# Altium schematic symbol library NEST.SchLib: 23 symbols
Pins are listed as number, name and electrical type; pins without a type are passive.

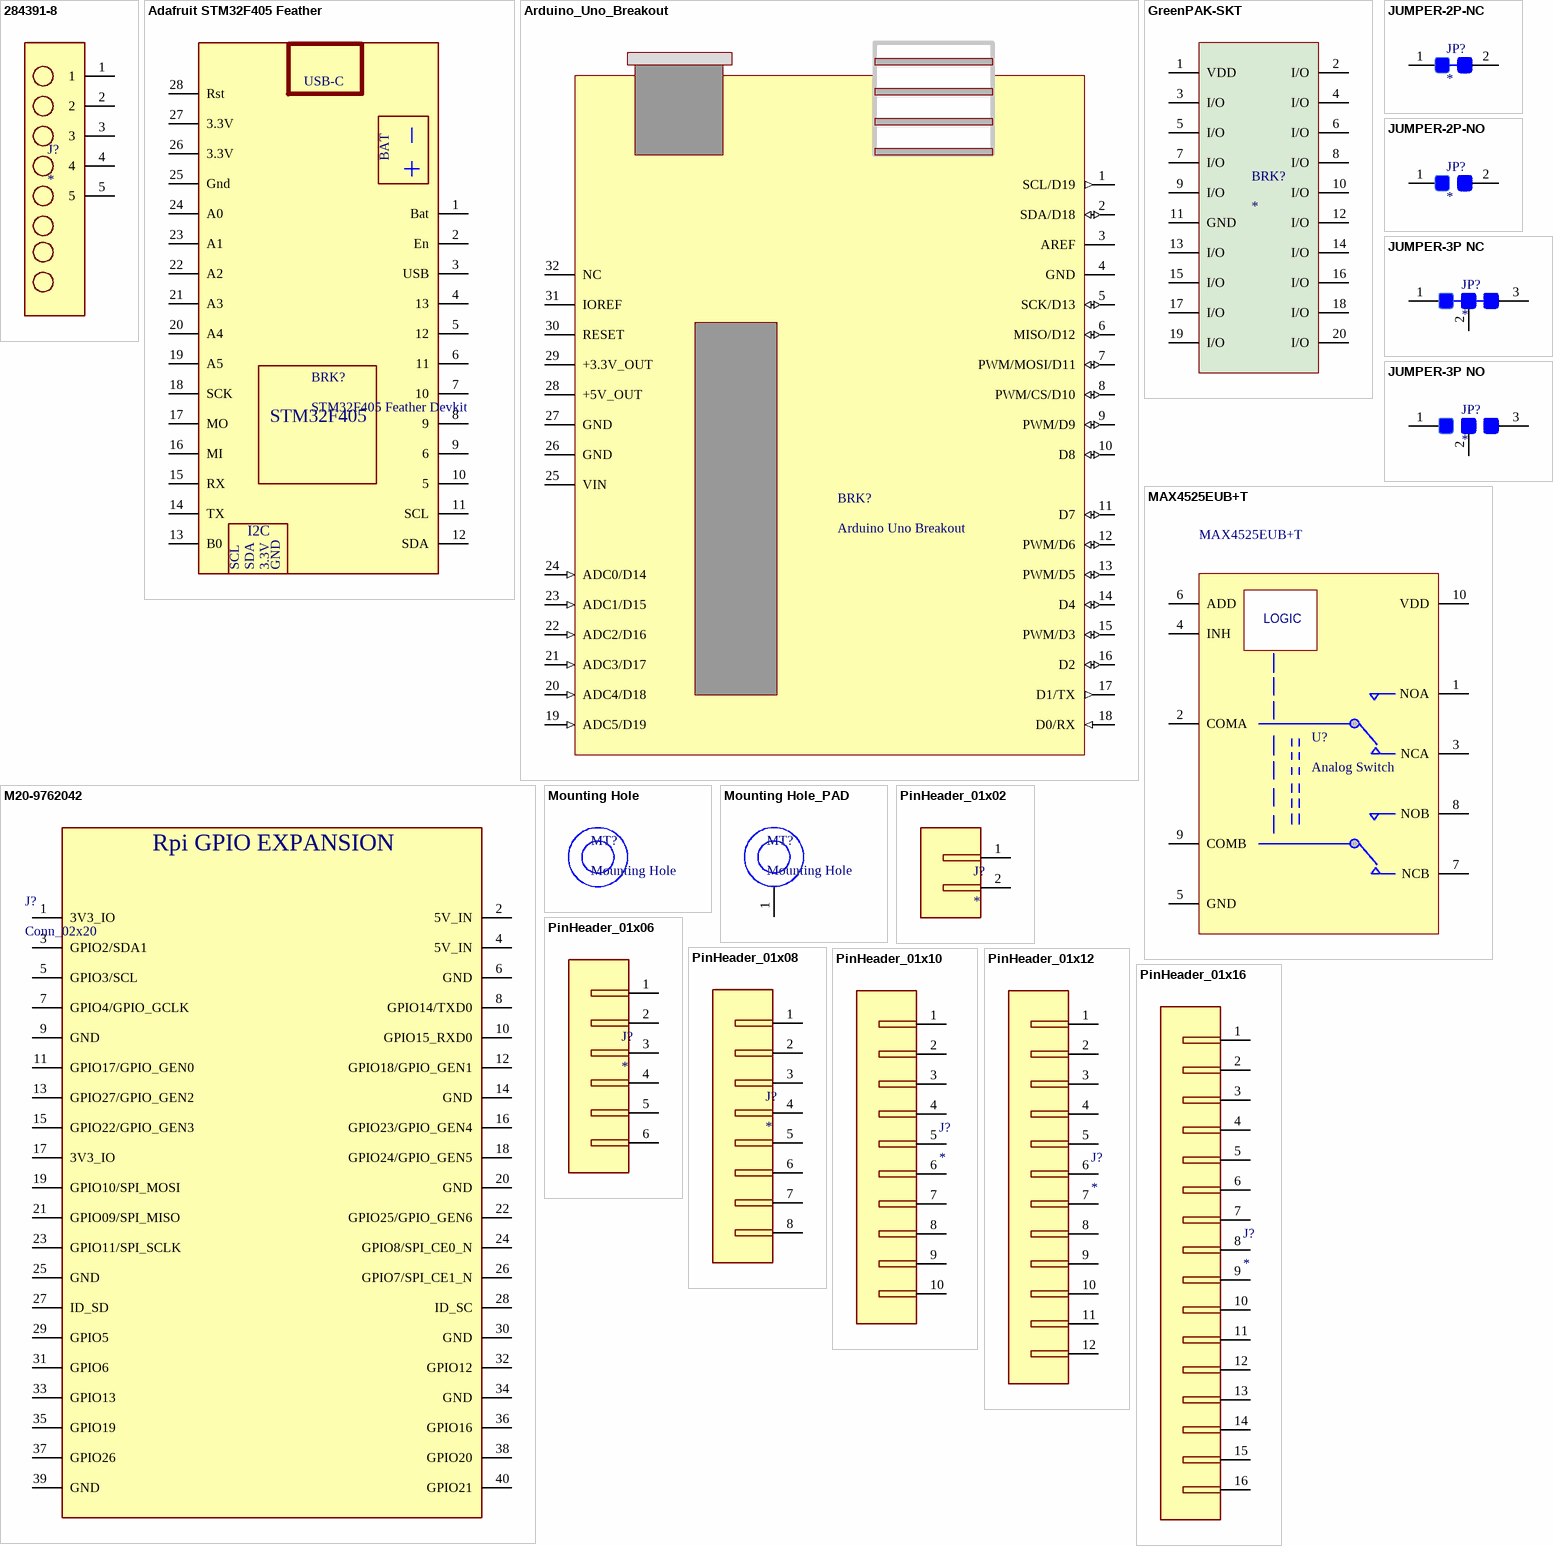
[diagram p0: symbols 284391-8 to PinHeader_01x16]

## 284391-8
designator J?
8 Position Wire to Board Terminal Block Horizontal with Board 0.138 _3.50mm_ Through Hole; Manufacturer Part Number: 284391-8; Manufacturer: TI
footprint 284391-8
pins: 1, 2, 3, 4, 5

## Adafruit STM32F405 Feather
designator BRK?, comment STM32F405 Feather Devkit
STM32F405 Cortex M4 with FPU and 1MB Flash, 168MHz speed / 192KB RAM total - 128 KB RAM for general usage + 64 KB program-only/cache RAM / 3.3V logic, but almost all pins are 5V compliant! / USB C power and data - our first USB C Feather! / LiPo connector and charger / SD socket on the bottom, connected to SDIO port / 2 MB SPI Flash chip / Built in NeoPixel indicator / I2C, UART, GPIO, ADCs, DACs; Manufacturer Part Number: Adafruit STM32F405 Feather; Manufacturer: Adafruit; ComponentLink1Description: Datasheet; ComponentLink1URL: https://cdn-learn.adafruit.com/downloads/pdf/adafruit-stm32f405-feather-express.pdf
footprint ADAFRUIT STM32F405 FEATHER
pins: 1 Bat "Connected to +BAT & +5V USB", 2 En "EN(able) 3.3V Regulator - ACTIVE_HIGH", 3 USB, 4 13 "PC1", 5 12 "PC2", 6 11 "PC3", 7 10 "PB9", 8 9 "PB8", 9 6 "PC6", 10 5 "PC7", 11 SCL "PB6", 12 SDA "PB7", 13 B0 "DFU", 14 TX "PB10", 15 RX "PB11", 16 MI "PB14", 17 MO "PB15", 18 SCK "PB13", 19 A5 "PC5/GPIO21", 20 A4 "PC4/GPIO20", 21 A3 "PA7/GPIO19", 22 A2 "PA6/GPIO18", 23 A1 "PA5/GPIO17", 24 A0 "PA4/GPIO16", 25 Gnd "Ground", 26 3.3V "+3.3V", 27 3.3V "RST", 28 Rst "RST"
text: USB-C; BAT; STM32F405; I2C; GND

## Arduino_Uno_Breakout
designator BRK?, comment Arduino Uno Breakout
Arduino Uno is a microcontroller board based on the ATmega328P. / It has 14 digital input/output pins (of which 6 can be used as PWM outputs),  6 analog inputs,  a 16 MHz ceramic resonator (CSTCE16M0V53-R0), a USB connection, a power jack, an ICSP header and a reset button.; Manufacturer Part Number: A000066; Manufacturer: Arduino; ComponentLink1Description: Datasheet; ComponentLink1URL: https://docs.arduino.cc/resources/datasheets/A000066-datasheet.pdf
footprint ARDUINO UNO (Arduino Uno is a microcontroller board based on the ATmega328P (datasheet). It has 14 digital input/output pins (of which 6 can be used as PWM outputs), 6 analog inputs, a 16 MHz ceramic resonator (CSTCE16M0V53-R0), a USB connection, a power jack, an ICSP header and a reset button.)
footprint Arduino Uno - Flipped
pins: 1 SCL/D19 (out), 2 SDA/D18 (io), 3 AREF, 4 GND, 5 SCK/D13 (io), 6 MISO/D12 (io), 7 PWM/MOSI/D11 (io), 8 PWM/CS/D10 (io), 9 PWM/D9 (io), 10 D8 (io), 11 D7 (io), 12 PWM/D6 (io), 13 PWM/D5 (io), 14 D4 (io), 15 PWM/D3 (io), 16 D2 (io), 17 D1/TX (out), 18 D0/RX (in), 19 ADC5/D19 (in), 20 ADC4/D18 (in), 21 ADC3/D17 (in), 22 ADC2/D16 (in), 23 ADC1/D15 (in), 24 ADC0/D14 (in), 25 VIN, 26 GND, 27 GND, 28 +5V_OUT, 29 +3.3V_OUT, 30 RESET, 31 IOREF, 32 NC

## GreenPAK-SKT
designator BRK?
GreenPAK™ is a broad family of cost-effective non-volatile memory (NVM) programmable devices that enable innovators to integrate many system functions into a single custom circuit, and in the process minimize component count, board space, and power consumption. Using GreenPAK Designer Software and GreenPAK Development Kit, designers can create and program your perfect custom circuit in minutes.
footprint GREENPAK_02X10_P2.54mm
pins: 1 VDD, 2 I/O, 3 I/O, 4 I/O, 5 I/O, 6 I/O, 7 I/O, 8 I/O, 9 I/O, 10 I/O, 11 GND, 12 I/O, 13 I/O, 14 I/O, 15 I/O, 16 I/O, 17 I/O, 18 I/O, 19 I/O, 20 I/O

## JUMPER-2P-NC
designator JP?  (net tie, no BOM)
2 Jumper Pad Normally Connected
footprint JP-2P-NC2
pins: 1, 2

## JUMPER-2P-NO
designator JP?
2 Jumper Pad Normally Open
footprint JP-2P-NO
footprint JP-2P-NO2
pins: 1, 2

## JUMPER-3P NC
designator JP?  (net tie, no BOM)
3 Jumper Pad Normally Connected
pins: 1, 2, 3

## JUMPER-3P NO
designator JP?
3 Jumper Pad Normally Open
footprint JP-3P-NO
footprint JP-3P-NO2
pins: 1, 2, 3

## M20-9762042
designator J?, comment Conn_02x20
2.54mm (0.1") Pitch DIL Vertical Throughboard Pin Header, 5.8mm mating pin height, selective gold + tin, 20+20 contacts; Manufacturer Part Number: M20-9762042; Manufacturer: Harwin; ComponentLink1Description: Datasheet; ComponentLink1URL: https://cdn.harwin.com/pdfs/M20-976.pdf
footprint PinHeader_02x20_P2.54mm
pins: 1 3V3_IO, 2 5V_IN, 3 GPIO2/SDA1, 4 5V_IN, 5 GPIO3/SCL, 6 GND, 7 GPIO4/GPIO_GCLK, 8 GPIO14/TXD0, 9 GND, 10 GPIO15_RXD0, 11 GPIO17/GPIO_GEN0, 12 GPIO18/GPIO_GEN1, 13 GPIO27/GPIO_GEN2, 14 GND, 15 GPIO22/GPIO_GEN3, 16 GPIO23/GPIO_GEN4, 17 3V3_IO, 18 GPIO24/GPIO_GEN5, 19 GPIO10/SPI_MOSI, 20 GND, 21 GPIO09/SPI_MISO, 22 GPIO25/GPIO_GEN6, 23 GPIO11/SPI_SCLK, 24 GPIO8/SPI_CE0_N, 25 GND, 26 GPIO7/SPI_CE1_N, 27 ID_SD, 28 ID_SC, 29 GPIO5, 30 GND, 31 GPIO6, 32 GPIO12, 33 GPIO13, 34 GND, 35 GPIO19, 36 GPIO16, 37 GPIO26, 38 GPIO20, 39 GND, 40 GPIO21
text: Rpi GPIO EXPANSION

## MAX4525EUB+T
designator U?, comment Analog Switch  Manufacturer Part Number: MAX4525EUB+T
Analog Switch ICs Low-Voltage, Single-Supply Multiplexer and Switch; Manufacturer: Analog Device; ComponentLink1Description: Datasheet; ComponentLink1URL: https://www.analog.com/media/en/technical-documentation/data-sheets/MAX4524-MAX4525.pdf
footprint MAX4525EUB+T (Analog Switch ICs Low-Voltage, Single-Supply Multiplexer and Switch)
pins: 1 NOA "Analog Switch “A” Normally Open Input", 2 COMA "Analog Switch “A” Common", 3 NCA "Analog Switch “A” Normally Closed Input", 4 INH "Inhibit. Connect to GND for normal operation. Connect to logic-level high to turn all", 5 GND, 6 ADD "Logic-Level Address Input (see Truth Tables)", 7 NCB "Analog Switch “B” Normally Closed Input", 8 NOB "Analog Switch “B” Normally Open Input", 9 COMB "Analog Switch “B” Common", 10 VDD "Positive Analog and Digital Supply Voltage Input"
text: LOGIC

## Mounting Hole
designator MT?
footprint MountingHole_3.5mm

## Mounting Hole_PAD
designator MT?, comment Mounting Hole
footprint MountingHole_3.5mm_Pad
footprint MountingHole_3.5mm_PadVia
pins: 1

## PinHeader_01x02
designator J?
PinHeader_01x02
footprint PinHeader_01x02_P2.54mm
pins: 1, 2

## PinHeader_01x06
designator J?
PinHeader_01x06
footprint PinHeader_01x06_P2.54mm
pins: 1, 2, 3, 4, 5, 6

## PinHeader_01x08
designator J?
PinHeader_01x08
footprint PinHeader_01x08_P2.54mm
pins: 1, 2, 3, 4, 5, 6, 7, 8

## PinHeader_01x10
designator J?
PinHeader_01x10
footprint PinHeader_01x10_P2.54mm
pins: 1, 2, 3, 4, 5, 6, 7, 8, 9, 10

## PinHeader_01x12
designator J?
PinHeader_01x12
footprint PinHeader_01x12_P2.54mm
pins: 1, 2, 3, 4, 5, 6, 7, 8, 9, 10, 11, 12

## PinHeader_01x16
designator J?
PinHeader_01x16
footprint PinHeader_01x16_P2.54mm
pins: 1, 2, 3, 4, 5, 6, 7, 8, 9, 10, 11, 12, 13, 14, 15, 16

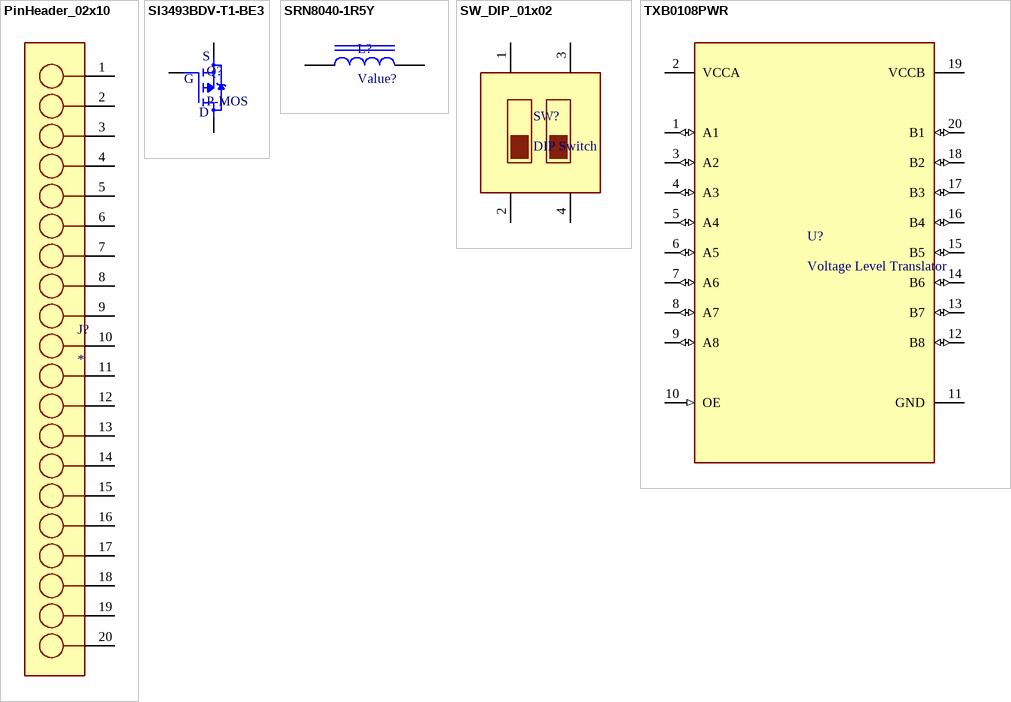
[diagram p1: symbols PinHeader_02x10 to TXB0108PWR]

## PinHeader_02x10
designator J?
PinSocket_02x10
footprint PinHeader_02X10_P2.54mm
pins: 1, 2, 3, 4, 5, 6, 7, 8, 9, 10, 11, 12, 13, 14, 15, 16, 17, 18, 19, 20

## SI3493BDV-T1-BE3
designator Q?, comment P-MOS
MOSFET P-CHANNEL 20-V (D-S); Manufacturer Part Number: SIA427DJ-T1-GE3; Manufacturer: Vishay; ComponentLink1Description: Datasheet; ComponentLink1URL: https://www.vishay.com/docs/66711/sia427dj.pdf
footprint SOT23127P600-8N
pins: 1 D, 2 D, 3 G, 4 S, 5 D, 6 D

## SRN8040-1R5Y
designator L?, comment Value?
Power Inductors - SMD 1.5uH 30% SMD 8040
footprint SRN8040-1R5Y (Power Inductors - SMD 1.5uH 30% SMD 8040)
pins: 1, 2

## SW_DIP_01x02
designator SW?, comment DIP Switch
DIP Switches / SIP Switches DIP Switch, SPST, 1.27 pitch, flat actuator, SMT, Tape and reel, 2 position, Black; Manufacturer Part Number: DS05-127-2-02BK-SMT-TR; Manufacturer: CUI Devices; ComponentLink1Description: Datasheet'; ComponentLink1URL: https://www.mouser.com/datasheet/2/670/ds05_127_smt-1777907.pdf
footprint SW_DIP_1x2 (DIP Switches / SIP Switches DIP Switch, SPST, 1.27 pitch, flat actuator, SMT, Tape and reel, 2 position, Black)
pins: 1 "COM_1", 2 "NO_1", 3 "COM_2", 4 "NO_2"

## TXB0108PWR
designator U?, comment Voltage Level Translator
Translation - Voltage Levels 8-Bit Bi-directional V-Level Translator / 8-Bit Bidirectional Voltage-Level Shifter with Auto Direction Sensing and +/-15-kV ESD Protect; Manufacturer Part Number: TXB0108PWR; Manufacturer: Texas Instruments; ComponentLink1Description: Datasheet; ComponentLink1URL: https://www.ti.com/lit/ds/symlink/txb0108.pdf?ts=1688709881753&ref_url=https%253A%252F%252Fwww.google.com%252F
footprint TSSOP-20, 6.50 mm x 4.40 mm (TSOP, 20-Leads, Body 6.50x4.40mm, Pitch 0.65mm, IPC Low Density)
pins: 1 A1 (io), 2 VCCA (power), 3 A2 (io), 4 A3 (io), 5 A4 (io), 6 A5 (io), 7 A6 (io), 8 A7 (io), 9 A8 (io), 10 OE (in), 11 GND (power), 12 B8 (io), 13 B7 (io), 14 B6 (io), 15 B5 (io), 16 B4 (io), 17 B3 (io), 18 B2 (io), 19 VCCB (power), 20 B1 (io)